# EAGLE library part USB_2 (library connector)
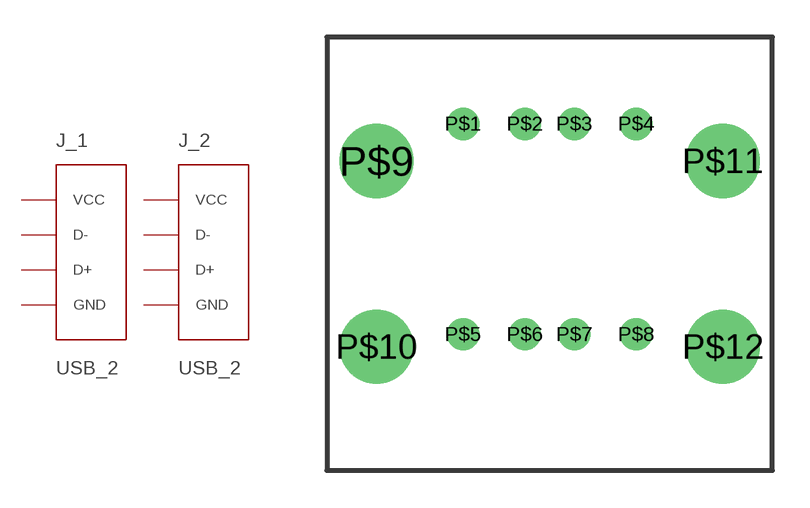
[diagram p4: symbol with the pads of USB_X2; footprint USB_X2]

Designator prefix J; gates _1=USB _2=USB

## USB_2  [USB_X2]
P$1  _1:VCC
P$2  _1:D+
P$3  _1:D-
P$4  _1:GND
P$5  _2:VCC
P$6  _2:D+
P$7  _2:D-
P$8  _2:GND
P$9  _2:GND
P$10  _2:GND
P$11  _2:GND
P$12  _2:GND

## Footprint USB_X2 (pad centres in mm)
drill 0.8: P$1 -3.5,9; P$2 -1,9; P$3 1,9; P$4 3.5,9; P$5 -3.5,0.5; P$6 -1,0.5; P$7 1,0.5; P$8 3.5,0.5
drill 2: P$9 -7,7.5; P$10 -7,0; P$11 7,7.5; P$12 7,0